# Altium footprint library Inductors.PcbLib: 32 footprints (part 1 of 2)
Each footprint in its own frame and in the unit in brackets; x right, y up, seen from the top. Pads: shape width x height; smd on the part's side, far side on the other; paste and mask are expansions set on the pad; w line width, h text height; cw(c..) or ccw(c..) is an arc to the next point about the centre after c.
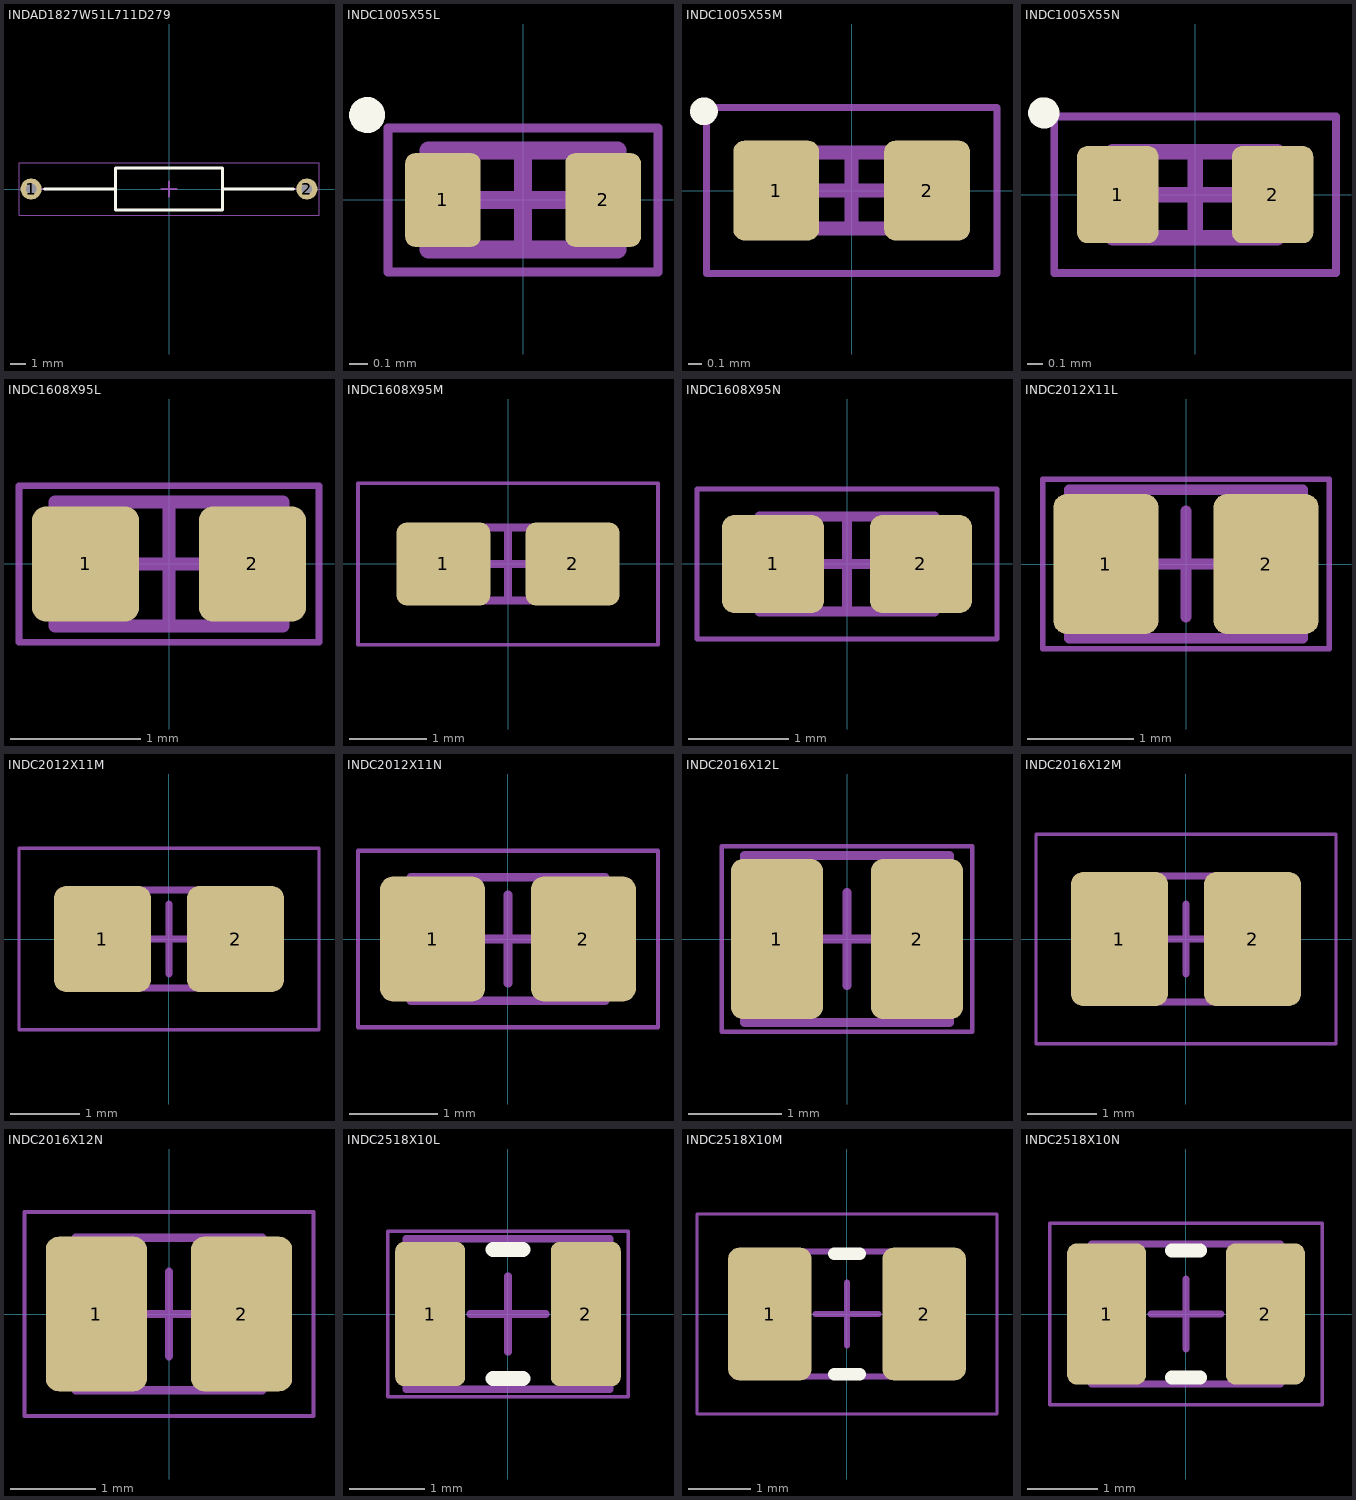
[diagram p0: the footprints below, top view; thin cyan lines are the x and y axes]

## INDAD1827W51L711D279 [mm] "Inductor, Non-Polarized Axial Diameter; Lead Spacing 18.27mm, Lead Width 0.51mm, Body Length 7.11mm, Body Diameter 2.79mm"
height 2.79
pads (2):
  round 1.4 hole 0.7 paste-1000 mask+0.05: 1(-9.15,0) 2(9.15,0)
Top Overlay:
  lines w0.2: -8.25,0 -3.555,0 ; 3.555,0 8.25,0 ; -3.555,-1.395 -3.555,1.395 3.555,1.395 3.555,-1.395 -3.555,-1.395
Top Component Outline:
  lines w0.1: -9.15,0 -3.555,0 ; 3.555,0 9.15,0 ; -3.555,-1.395 -3.555,1.395 3.555,1.395 3.555,-1.395 -3.555,-1.395
Top Courtyard:
  lines w0.05: -9.95,-1.745 -9.95,1.745 9.95,1.745 9.95,-1.745 -9.95,-1.745
Top Component Center:
  lines w0.1: -0.5,0 0.5,0 ; 0,-0.5 0,0.5
Top Designator (Mech15):
  text ".Designator" at -4.04,-0.476 h2
Top Assembly:
  lines w0.1: -9.15,0 -3.555,0 ; 3.555,0 9.15,0 ; -3.555,-1.395 -3.555,1.395 3.555,1.395 3.555,-1.395 -3.555,-1.395
  text ".Designator" at -4.04,-0.476 h2
3D body "INDAD1827W51L711D279.step": height 2.79, standoff -2.79, extent -9.405,-1.385 9.375,1.385

## INDC1005X55L [mm] "Chip Inductor, EIA 0402, Metric 1005, Body 1.00x0.50mm, IPC High Density"
height 0.55
pads (2):
  rrect25% 0.42x0.52 smd paste+0 mask+0.05: 1(-0.445,0) 2(0.445,0)
Top Overlay:
  circle w0.1: c-0.867,0.472 r0.05
Top Component Outline:
  lines w0.1: -0.325,-0.275 -0.325,0.275 ; -0.525,-0.275 0.525,-0.275 0.525,0.275 -0.525,0.275 -0.525,-0.275
Top Courtyard:
  lines w0.05: -0.75,-0.4 0.75,-0.4 0.75,0.4 -0.75,0.4 -0.75,-0.4
Top Component Center:
  lines w0.1: -0.275,0 0.275,0 ; 0,-0.275 0,0.275
Top Designator (Mech15):
  text ".Designator" at -4.04,-0.476 h2
Top Assembly:
  lines w0.1: -0.325,-0.275 -0.325,0.275 ; -0.525,-0.275 0.525,-0.275 0.525,0.275 -0.525,0.275 -0.525,-0.275
  text ".Designator" at -4.04,-0.476 h2
3D body "INDC1005X55.step": height 0.55, standoff 0, extent -0.525,-0.275 0.525,0.275

## INDC1005X55M [mm] "Chip Inductor, EIA 0402, Metric 1005, Body 1.00x0.50mm, IPC Low Density"
height 0.55
pads (2):
  rrect25% 0.62x0.72 smd paste+0 mask+0.05: 1(-0.545,0) 2(0.545,0)
Top Overlay:
  circle w0.1: c-1.067,0.572 r0.05
Top Component Outline:
  lines w0.1: -0.325,-0.275 -0.325,0.275 ; -0.525,-0.275 -0.525,0.275 0.525,0.275 0.525,-0.275 -0.525,-0.275
Top Courtyard:
  lines w0.05: -1.05,-0.6 -1.05,0.6 1.05,0.6 1.05,-0.6 -1.05,-0.6
Top Component Center:
  lines w0.1: -0.275,0 0.275,0 ; 0,-0.275 0,0.275
Top Designator (Mech15):
  text ".Designator" at -4.04,-0.476 h2
Top Assembly:
  lines w0.1: -0.325,-0.275 -0.325,0.275 ; -0.525,-0.275 -0.525,0.275 0.525,0.275 0.525,-0.275 -0.525,-0.275
  text ".Designator" at -4.04,-0.476 h2
3D body "INDC1005X55.step": height 0.55, standoff 0, extent -0.525,-0.275 0.525,0.275

## INDC1005X55N [mm] "Chip Inductor, EIA 0402, Metric 1005, Body 1.00x0.50mm, IPC Medium Density"
height 0.55
pads (2):
  rrect25% 0.52x0.62 smd paste+0 mask+0.05: 1(-0.495,0) 2(0.495,0)
Top Overlay:
  circle w0.1: c-0.967,0.522 r0.05
Top Component Outline:
  lines w0.1: -0.325,-0.275 -0.325,0.275 ; -0.525,-0.275 -0.525,0.275 0.525,0.275 0.525,-0.275 -0.525,-0.275
Top Courtyard:
  lines w0.05: -0.9,-0.5 -0.9,0.5 0.9,0.5 0.9,-0.5 -0.9,-0.5
Top Component Center:
  lines w0.1: -0.275,0 0.275,0 ; 0,-0.275 0,0.275
Top Designator (Mech15):
  text ".Designator" at -4.04,-0.476 h2
Top Assembly:
  lines w0.1: -0.325,-0.275 -0.325,0.275 ; -0.525,-0.275 -0.525,0.275 0.525,0.275 0.525,-0.275 -0.525,-0.275
  text ".Designator" at -4.04,-0.476 h2
3D body "INDC1005X55.step": height 0.55, standoff 0, extent -0.525,-0.275 0.525,0.275

## INDC1608X95L [mm] "Chip Inductor, EIA 0603, Metric 1608, Body 1.60x0.80mm, IPC High Density"
height 0.95
pads (2):
  rrect25% 0.82x0.88 smd paste+0 mask+0.05: 1(-0.64,0) 2(0.64,0)
Top Component Outline:
  lines w0.1: -0.875,-0.475 0.875,-0.475 0.875,0.475 -0.875,0.475 -0.875,-0.475
Top Courtyard:
  lines w0.05: -1.15,-0.6 1.15,-0.6 1.15,0.6 -1.15,0.6 -1.15,-0.6
Top Component Center:
  lines w0.1: -0.475,0 0.475,0 ; 0,-0.475 0,0.475
Top Designator (Mech15):
  text ".Designator" at -4.04,-0.476 h2
Top Assembly:
  lines w0.1: -0.875,-0.475 0.875,-0.475 0.875,0.475 -0.875,0.475 -0.875,-0.475
  text ".Designator" at -4.04,-0.476 h2
3D body "INDC1608X95.step": height 0.95, standoff 0, extent -0.875,-0.475 0.875,0.475

## INDC1608X95M [mm] "Chip Inductor, EIA 0603, Metric 1608, Body 1.60x0.80mm, IPC Low Density"
height 0.95
pads (2):
  rrect25% 1.22x1.08 smd paste+0 mask+0.05: 1(-0.84,0) 2(0.84,0)
Top Component Outline:
  lines w0.1: -0.875,-0.475 -0.875,0.475 0.875,0.475 0.875,-0.475 -0.875,-0.475
Top Courtyard:
  lines w0.05: -1.95,-1.05 -1.95,1.05 1.95,1.05 1.95,-1.05 -1.95,-1.05
Top Component Center:
  lines w0.1: -0.475,0 0.475,0 ; 0,-0.475 0,0.475
Top Designator (Mech15):
  text ".Designator" at -4.04,-0.476 h2
Top Assembly:
  lines w0.1: -0.875,-0.475 -0.875,0.475 0.875,0.475 0.875,-0.475 -0.875,-0.475
  text ".Designator" at -4.04,-0.476 h2
3D body "INDC1608X95.step": height 0.95, standoff 0, extent -0.875,-0.475 0.875,0.475

## INDC1608X95N [mm] "Chip Inductor, EIA 0603, Metric 1608, Body 1.60x0.80mm, IPC Medium Density"
height 0.95
pads (2):
  rrect25% 1.02x0.98 smd paste+0 mask+0.05: 1(-0.74,0) 2(0.74,0)
Top Component Outline:
  lines w0.1: -0.875,-0.475 -0.875,0.475 0.875,0.475 0.875,-0.475 -0.875,-0.475
Top Courtyard:
  lines w0.05: -1.5,-0.75 -1.5,0.75 1.5,0.75 1.5,-0.75 -1.5,-0.75
Top Component Center:
  lines w0.1: -0.475,0 0.475,0 ; 0,-0.475 0,0.475
Top Designator (Mech15):
  text ".Designator" at -4.04,-0.476 h2
Top Assembly:
  lines w0.1: -0.875,-0.475 -0.875,0.475 0.875,0.475 0.875,-0.475 -0.875,-0.475
  text ".Designator" at -4.04,-0.476 h2
3D body "INDC1608X95.step": height 0.95, standoff 0, extent -0.875,-0.475 0.875,0.475

## INDC2012X11L [mm] "Chip Inductor, EIA 0805, Metric 2012, Body 2.00x1.20mm, IPC High Density"
height 1.1
pads (2):
  rrect25% 0.99x1.32 smd paste+0 mask+0.05: 1(-0.755,0) 2(0.755,0)
Top Component Outline:
  lines w0.1: -1.1,-0.7 1.1,-0.7 1.1,0.7 -1.1,0.7 -1.1,-0.7
Top Courtyard:
  lines w0.05: -1.35,-0.8 1.35,-0.8 1.35,0.8 -1.35,0.8 -1.35,-0.8
Top Component Center:
  lines w0.1: -0.5,0 0.5,0 ; 0,-0.5 0,0.5
Top Designator (Mech15):
  text ".Designator" at -4.04,-0.476 h2
Top Assembly:
  lines w0.1: -1.1,-0.7 1.1,-0.7 1.1,0.7 -1.1,0.7 -1.1,-0.7
  text ".Designator" at -4.04,-0.476 h2
3D body "INDC2012X11.step": height 1.1, standoff 0, extent -1.1,-0.7 1.1,0.7

## INDC2012X11M [mm] "Chip Inductor, EIA 0805, Metric 2012, Body 2.00x1.20mm, IPC Low Density"
height 1.1
pads (2):
  rrect25% 1.39x1.52 smd paste+0 mask+0.05: 1(-0.955,0) 2(0.955,0)
Top Component Outline:
  lines w0.1: -1.1,-0.7 1.1,-0.7 1.1,0.7 -1.1,0.7 -1.1,-0.7
Top Courtyard:
  lines w0.05: -2.15,-1.3 2.15,-1.3 2.15,1.3 -2.15,1.3 -2.15,-1.3
Top Component Center:
  lines w0.1: -0.5,0 0.5,0 ; 0,-0.5 0,0.5
Top Designator (Mech15):
  text ".Designator" at -4.04,-0.476 h2
Top Assembly:
  lines w0.1: -1.1,-0.7 1.1,-0.7 1.1,0.7 -1.1,0.7 -1.1,-0.7
  text ".Designator" at -4.04,-0.476 h2
3D body "INDC2012X11.step": height 1.1, standoff 0, extent -1.1,-0.7 1.1,0.7

## INDC2012X11N [mm] "Chip Inductor, EIA 0805, Metric 2012, Body 2.00x1.20mm, IPC Medium Density"
height 1.1
pads (2):
  rrect25% 1.19x1.42 smd paste+0 mask+0.05: 1(-0.855,0) 2(0.855,0)
Top Component Outline:
  lines w0.1: -1.1,-0.7 1.1,-0.7 1.1,0.7 -1.1,0.7 -1.1,-0.7
Top Courtyard:
  lines w0.05: -1.7,-1 -1.7,1 1.7,1 1.7,-1 -1.7,-1
Top Component Center:
  lines w0.1: -0.5,0 0.5,0 ; 0,-0.5 0,0.5
Top Designator (Mech15):
  text ".Designator" at -4.04,-0.476 h2
Top Assembly:
  lines w0.1: -1.1,-0.7 -1.1,0.7 1.1,0.7 1.1,-0.7 -1.1,-0.7
  text ".Designator" at -4.04,-0.476 h2
3D body "INDC2012X11.step": height 1.1, standoff 0, extent -1.1,-0.7 1.1,0.7

## INDC2016X12L [mm] "Chip Inductor, EIA 0806, Metric 2016, Body 2.00x1.60mm, IPC High Density"
height 1.2
pads (2):
  rrect25% 0.99x1.72 smd paste+0 mask+0.05: 1(-0.755,0) 2(0.755,0)
Top Component Outline:
  lines w0.1: -1.1,-0.9 -1.1,0.9 1.1,0.9 1.1,-0.9 -1.1,-0.9
Top Courtyard:
  lines w0.05: -1.35,-1 -1.35,1 1.35,1 1.35,-1 -1.35,-1
Top Component Center:
  lines w0.1: -0.5,0 0.5,0 ; 0,-0.5 0,0.5
Top Designator (Mech15):
  text ".Designator" at -4.04,-0.476 h2
Top Assembly:
  lines w0.1: -1.1,-0.9 -1.1,0.9 1.1,0.9 1.1,-0.9 -1.1,-0.9
  text ".Designator" at -4.04,-0.476 h2
3D body "INDC2016X12.step": height 1.2, standoff 0, extent -1.1,-0.9 1.1,0.9

## INDC2016X12M [mm] "Chip Inductor, EIA 0806, Metric 2016, Body 2.00x1.60mm, IPC Low Density"
height 1.2
pads (2):
  rrect25% 1.39x1.92 smd paste+0 mask+0.05: 1(-0.955,0) 2(0.955,0)
Top Component Outline:
  lines w0.1: -1.1,-0.9 1.1,-0.9 1.1,0.9 -1.1,0.9 -1.1,-0.9
Top Courtyard:
  lines w0.05: -2.15,-1.5 -2.15,1.5 2.15,1.5 2.15,-1.5 -2.15,-1.5
Top Component Center:
  lines w0.1: -0.5,0 0.5,0 ; 0,-0.5 0,0.5
Top Designator (Mech15):
  text ".Designator" at -4.04,-0.476 h2
Top Assembly:
  lines w0.1: -1.1,-0.9 -1.1,0.9 1.1,0.9 1.1,-0.9 -1.1,-0.9
  text ".Designator" at -4.04,-0.476 h2
3D body "INDC2016X12.step": height 1.2, standoff 0, extent -1.1,-0.9 1.1,0.9

## INDC2016X12N [mm] "Chip Inductor, EIA 0806, Metric 2016, Body 2.00x1.60mm, IPC Medium Density"
height 1.2
pads (2):
  rrect25% 1.19x1.82 smd paste+0 mask+0.05: 1(-0.855,0) 2(0.855,0)
Top Component Outline:
  lines w0.1: -1.1,-0.9 -1.1,0.9 1.1,0.9 1.1,-0.9 -1.1,-0.9
Top Courtyard:
  lines w0.05: -1.7,-1.2 -1.7,1.2 1.7,1.2 1.7,-1.2 -1.7,-1.2
Top Component Center:
  lines w0.1: -0.5,0 0.5,0 ; 0,-0.5 0,0.5
Top Designator (Mech15):
  text ".Designator" at -4.04,-0.476 h2
Top Assembly:
  lines w0.1: -1.1,-0.9 -1.1,0.9 1.1,0.9 1.1,-0.9 -1.1,-0.9
  text ".Designator" at -4.04,-0.476 h2
3D body "INDC2016X12.step": height 1.2, standoff 0, extent -1.1,-0.9 1.1,0.9

## INDC2518X10L [mm] "Chip Inductor, EIA 1007, Metric 2518, Body 2.50x1.80mm, IPC High Density"
height 1
pads (2):
  rrect25% 0.93x1.92 smd paste+0 mask+0.05: 1(-1.035,0) 2(1.035,0)
Top Overlay:
  lines w0.2: -0.2,-0.86 0.2,-0.86 ; -0.2,0.86 0.2,0.86
Top Component Outline:
  lines w0.1: -1.35,-1 1.35,-1 1.35,1 -1.35,1 -1.35,-1
Top Courtyard:
  lines w0.05: -1.6,-1.1 1.6,-1.1 1.6,1.1 -1.6,1.1 -1.6,-1.1
Top Component Center:
  lines w0.1: -0.5,0 0.5,0 ; 0,-0.5 0,0.5
Top Designator (Mech15):
  text ".Designator" at -4.04,-0.476 h2
Top Assembly:
  lines w0.1: -1.35,-1 1.35,-1 1.35,1 -1.35,1 -1.35,-1
  text ".Designator" at -4.04,-0.476 h2
3D body "INDC2518X10.step": height 1, standoff 0, extent -1.35,-1 1.35,1

## INDC2518X10M [mm] "Chip Inductor, EIA 1007, Metric 2518, Body 2.50x1.80mm, IPC Low Density"
height 1
pads (2):
  rrect25% 1.33x2.12 smd paste+0 mask+0.05: 1(-1.235,0) 2(1.235,0)
Top Overlay:
  lines w0.2: -0.2,-0.96 0.2,-0.96 ; -0.2,0.96 0.2,0.96
Top Component Outline:
  lines w0.1: -1.35,-1 1.35,-1 1.35,1 -1.35,1 -1.35,-1
Top Courtyard:
  lines w0.05: -2.4,-1.6 2.4,-1.6 2.4,1.6 -2.4,1.6 -2.4,-1.6
Top Component Center:
  lines w0.1: -0.5,0 0.5,0 ; 0,-0.5 0,0.5
Top Designator (Mech15):
  text ".Designator" at -4.04,-0.476 h2
Top Assembly:
  lines w0.1: -1.35,-1 1.35,-1 1.35,1 -1.35,1 -1.35,-1
  text ".Designator" at -4.04,-0.476 h2
3D body "INDC2518X10.step": height 1, standoff 0, extent -1.35,-1 1.35,1

## INDC2518X10N [mm] "Chip Inductor, EIA 1007, Metric 2518, Body 2.50x1.80mm, IPC Medium Density"
height 1
pads (2):
  rrect25% 1.13x2.02 smd paste+0 mask+0.05: 1(-1.135,0) 2(1.135,0)
Top Overlay:
  lines w0.2: -0.2,-0.91 0.2,-0.91 ; -0.2,0.91 0.2,0.91
Top Component Outline:
  lines w0.1: -1.35,-1 1.35,-1 1.35,1 -1.35,1 -1.35,-1
Top Courtyard:
  lines w0.05: -1.95,-1.3 1.95,-1.3 1.95,1.3 -1.95,1.3 -1.95,-1.3
Top Component Center:
  lines w0.1: -0.5,0 0.5,0 ; 0,-0.5 0,0.5
Top Designator (Mech15):
  text ".Designator" at -4.04,-0.476 h2
Top Assembly:
  lines w0.1: -1.35,-1 1.35,-1 1.35,1 -1.35,1 -1.35,-1
  text ".Designator" at -4.04,-0.476 h2
3D body "INDC2518X10.step": height 1, standoff 0, extent -1.35,-1 1.35,1